# EAGLE library part ARDUINO_PRO_MINI (library SparkFun-Boards)
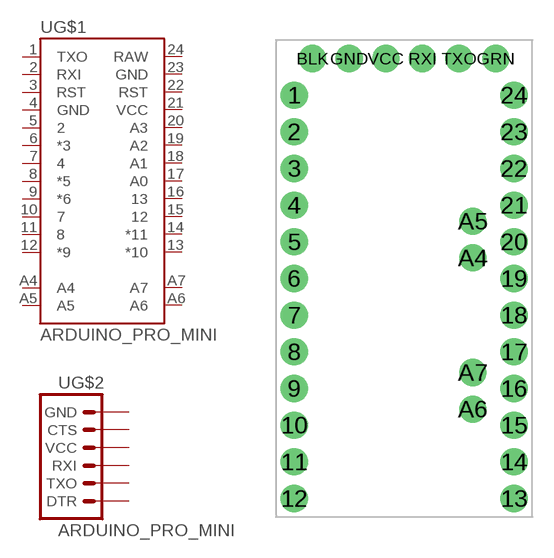
[diagram p10: symbol with the pads of ARDUINO_PRO_MINI; footprint ARDUINO_PRO_MINI]

Designator prefix -; gates G$1=ARDUINO_PRO_MINI G$2=FTDI_PRO_MINI

## ARDUINO_PRO_MINI  [ARDUINO_PRO_MINI]
1  G$1:TXO
2  G$1:RXI
3  G$1:RST
4  G$1:GND
5  G$1:2
6  G$1:*3
7  G$1:4
8  G$1:*5
9  G$1:*6
10  G$1:7
11  G$1:8
12  G$1:*9
13  G$1:*10
14  G$1:*11
15  G$1:12
16  G$1:13
17  G$1:A0
18  G$1:A1
19  G$1:A2
20  G$1:A3
21  G$1:VCC
22  G$1:RST
23  G$1:GND
24  G$1:RAW
A4  G$1:A4
A5  G$1:A5
A6  G$1:A6
A7  G$1:A7
BLK  G$2:GND  pas
GND  G$2:CTS  pas
GRN  G$2:DTR  pas
RXI  G$2:RXI  pas
TXO  G$2:TXO  pas
VCC  G$2:VCC  pas

## Footprint ARDUINO_PRO_MINI (pad centres in mm)
drill 1.016 pad 1.88: 1 -7.62,12.7; 2 -7.62,10.16; 3 -7.62,7.62; 4 -7.62,5.08; 5 -7.62,2.54; 6 -7.62,0; 7 -7.62,-2.54; 8 -7.62,-5.08; 9 -7.62,-7.62; 10 -7.62,-10.16; 11 -7.62,-12.7; 12 -7.62,-15.24; 13 7.62,-15.24; 14 7.62,-12.7; 15 7.62,-10.16; 16 7.62,-7.62; 17 7.62,-5.08; 18 7.62,-2.54; 19 7.62,0; 20 7.62,2.54; 21 7.62,5.08; 22 7.62,7.62; 23 7.62,10.16; 24 7.62,12.7; A4 4.763,1.429; A5 4.763,3.969; A6 4.763,-9.049; A7 4.763,-6.509; BLK -6.35,15.24; GND -3.81,15.24; GRN 6.35,15.24; RXI 1.27,15.24; TXO 3.81,15.24; VCC -1.27,15.24